# EAGLE library part CD4026BE (library CD4026BE)
CD4026BE, 5-stage Decade Counter/Divider, Decade, Up Counter, 3 18 V, 16-Pin PDIP Source: Datasheet <http://www.ti.com/lit/ds/symlink/cd4026b.pdf>
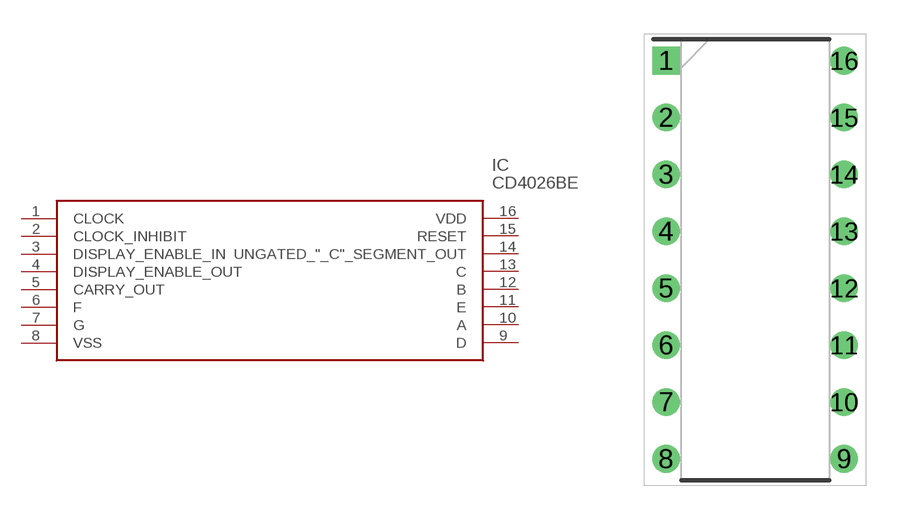
[diagram p0: symbol with the pads of DIP794W53P254L1930H508Q16N; footprint DIP794W53P254L1930H508Q16N]

Designator prefix IC

## CD4026BE (Arrow_Part_Number: CD4026BE; Arrow_Price-Stock: https://www.arrow.com/en/products/cd4026be/texas-instruments?region=nac; Description: CD4026BE, 5-stage Decade Counter/Divider, Decade, Up Counter, 3 18 V, 16-Pin PDIP; Height: 5.08mm; Manufacturer_Name: Texas Instruments; Manufacturer_Part_Number: CD4026BE; Mouser_Part_Number: 595-CD4026BE; Mouser_Price-Stock: https://www.mouser.co.uk/ProductDetail/Texas-Instruments/CD4026BE?qs=bkMXpVdiF42nXhwyXNpecA%3D%3D)  [DIP794W53P254L1930H508Q16N]
1  CLOCK
2  CLOCK_INHIBIT
3  DISPLAY_ENABLE_IN
4  DISPLAY_ENABLE_OUT
5  CARRY_OUT
6  F
7  G
8  VSS
9  D
10  A
11  E
12  B
13  C
14  UNGATED_"_C"_SEGMENT_OUT
15  RESET
16  VDD

## Footprint DIP794W53P254L1930H508Q16N (pad centres in mm)
N (R-PDIP-T)
drill 0.73 pad 1.13 square: 1 -3.97,8.89
drill 0.73 pad 1.13: 2 -3.97,6.35; 3 -3.97,3.81; 4 -3.97,1.27; 5 -3.97,-1.27; 6 -3.97,-3.81; 7 -3.97,-6.35; 8 -3.97,-8.89; 9 3.97,-8.89; 10 3.97,-6.35; 11 3.97,-3.81; 12 3.97,-1.27; 13 3.97,1.27; 14 3.97,3.81; 15 3.97,6.35; 16 3.97,8.89